# Altium footprint library RealtekSwitches.PcbLib: 3 footprints
Each footprint in its own frame and in the unit in brackets; x right, y up, seen from the top. Pads: shape width x height; smd on the part's side, far side on the other; paste and mask are expansions set on the pad; w line width, h text height; cw(c..) or ccw(c..) is an arc to the next point about the centre after c.
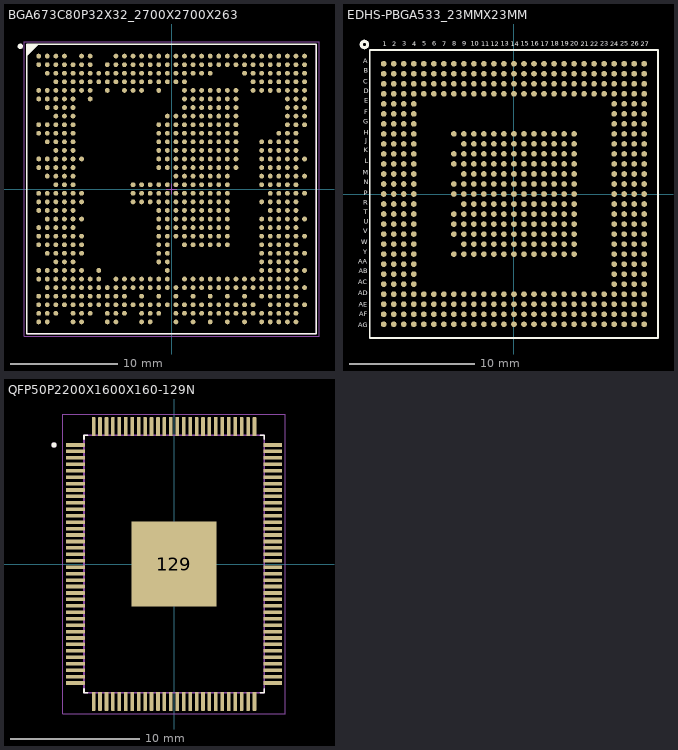
[diagram p0: the footprints below, top view; thin cyan lines are the x and y axes]

## BGA673C80P32X32_2700X2700X263 [mm] "BGA, 673-Leads, Body 27,00x27,00mmx2,63mm, Pitch 0,80mm"
height 2.63
pads (673):
  round 0.45 smd: A1(-12.4,12.4) A2(-11.6,12.4) A3(-10.8,12.4) A4(-10,12.4) A6(-8.4,12.4) A7(-7.6,12.4) A10(-5.2,12.4) A11(-4.4,12.4) A12(-3.6,12.4) A13(-2.8,12.4) A14(-2,12.4) A15(-1.2,12.4) A16(-0.4,12.4) A17(0.4,12.4) A18(1.2,12.4) A19(2,12.4) A20(2.8,12.4) A21(3.6,12.4) A22(4.4,12.4) A23(5.2,12.4) A24(6,12.4) A25(6.8,12.4) A26(7.6,12.4) A27(8.4,12.4) A28(9.2,12.4) A29(10,12.4) A30(10.8,12.4) A31(11.6,12.4) A32(12.4,12.4) AA1(-12.4,-3.6) AA2(-11.6,-3.6) AA3(-10.8,-3.6) AA4(-10,-3.6) AA5(-9.2,-3.6) AA15(-1.2,-3.6) AA16(-0.4,-3.6) AA17(0.4,-3.6) AA18(1.2,-3.6) AA19(2,-3.6) AA20(2.8,-3.6) AA21(3.6,-3.6) AA22(4.4,-3.6) AA23(5.2,-3.6) AA27(8.4,-3.6) AA28(9.2,-3.6) AA29(10,-3.6) AA30(10.8,-3.6) AA31(11.6,-3.6) AB1(-12.4,-4.4) AB2(-11.6,-4.4) AB3(-10.8,-4.4) AB4(-10,-4.4) AB5(-9.2,-4.4) AB6(-8.4,-4.4) AB15(-1.2,-4.4) AB16(-0.4,-4.4) AB17(0.4,-4.4) AB18(1.2,-4.4) AB19(2,-4.4) AB20(2.8,-4.4) AB21(3.6,-4.4) AB22(4.4,-4.4) AB23(5.2,-4.4) AB27(8.4,-4.4) AB28(9.2,-4.4) AB29(10,-4.4) AB30(10.8,-4.4) AB31(11.6,-4.4) AB32(12.4,-4.4) AC1(-12.4,-5.2) AC2(-11.6,-5.2) AC3(-10.8,-5.2) AC4(-10,-5.2) AC5(-9.2,-5.2) AC6(-8.4,-5.2) AC15(-1.2,-5.2) AC16(-0.4,-5.2) AC18(1.2,-5.2) AC19(2,-5.2) AC20(2.8,-5.2) AC21(3.6,-5.2) AC22(4.4,-5.2) AC23(5.2,-5.2) AC27(8.4,-5.2) AC28(9.2,-5.2) AC29(10,-5.2) AC30(10.8,-5.2) AC31(11.6,-5.2) AD2(-11.6,-6) AD3(-10.8,-6) AD4(-10,-6) AD5(-9.2,-6) AD6(-8.4,-6) AD15(-1.2,-6) AD16(-0.4,-6) AD27(8.4,-6) AD28(9.2,-6) AD29(10,-6) AD30(10.8,-6) AD31(11.6,-6) AD32(12.4,-6) AE3(-10.8,-6.8) AE4(-10,-6.8) AE5(-9.2,-6.8) AE15(-1.2,-6.8) AE16(-0.4,-6.8) AE27(8.4,-6.8) AE28(9.2,-6.8) AE29(10,-6.8) AE30(10.8,-6.8) AE31(11.6,-6.8) AF1(-12.4,-7.6) AF2(-11.6,-7.6) AF3(-10.8,-7.6) AF4(-10,-7.6) AF5(-9.2,-7.6) AF6(-8.4,-7.6) AF8(-6.8,-7.6) AF16(-0.4,-7.6) AF27(8.4,-7.6) AF28(9.2,-7.6) AF29(10,-7.6) AF30(10.8,-7.6) AF31(11.6,-7.6) AF32(12.4,-7.6) AG1(-12.4,-8.4) AG2(-11.6,-8.4) AG3(-10.8,-8.4) AG4(-10,-8.4) AG5(-9.2,-8.4) AG6(-8.4,-8.4) AG7(-7.6,-8.4) AG8(-6.8,-8.4) AG10(-5.2,-8.4) AG11(-4.4,-8.4) AG12(-3.6,-8.4) AG13(-2.8,-8.4) AG14(-2,-8.4) AG15(-1.2,-8.4) AG16(-0.4,-8.4) AG18(1.2,-8.4) AG19(2,-8.4) AG20(2.8,-8.4) AG21(3.6,-8.4) AG22(4.4,-8.4) AG23(5.2,-8.4) AG24(6,-8.4) AG25(6.8,-8.4) AG26(7.6,-8.4) AG27(8.4,-8.4) AG28(9.2,-8.4) AG29(10,-8.4) AG30(10.8,-8.4) AG31(11.6,-8.4) AH2(-11.6,-9.2) AH3(-10.8,-9.2) AH4(-10,-9.2) AH5(-9.2,-9.2) AH6(-8.4,-9.2) AH7(-7.6,-9.2) AH8(-6.8,-9.2) AH9(-6,-9.2) AH10(-5.2,-9.2) AH11(-4.4,-9.2) AH12(-3.6,-9.2) AH13(-2.8,-9.2) AH14(-2,-9.2) AH15(-1.2,-9.2) AH16(-0.4,-9.2) AH17(0.4,-9.2) AH18(1.2,-9.2) AH19(2,-9.2) AH20(2.8,-9.2) AH21(3.6,-9.2) AH22(4.4,-9.2) AH23(5.2,-9.2) AH24(6,-9.2) AH25(6.8,-9.2) AH26(7.6,-9.2) AH27(8.4,-9.2) AH28(9.2,-9.2) AH29(10,-9.2) AH30(10.8,-9.2) AH31(11.6,-9.2) AH32(12.4,-9.2) AJ1(-12.4,-10) AJ2(-11.6,-10) AJ3(-10.8,-10) AJ4(-10,-10) AJ5(-9.2,-10) AJ6(-8.4,-10) AJ7(-7.6,-10) AJ8(-6.8,-10) AJ9(-6,-10) AJ10(-5.2,-10) AJ11(-4.4,-10) AJ13(-2.8,-10) AJ15(-1.2,-10) AJ17(0.4,-10) AJ19(2,-10) AJ21(3.6,-10) AJ23(5.2,-10) AJ25(6.8,-10) AJ27(8.4,-10) AJ28(9.2,-10) AJ29(10,-10) AJ30(10.8,-10) AJ31(11.6,-10) AK1(-12.4,-10.8) AK2(-11.6,-10.8) AK3(-10.8,-10.8) AK4(-10,-10.8) AK5(-9.2,-10.8) AK6(-8.4,-10.8) AK7(-7.6,-10.8) AK8(-6.8,-10.8) AK9(-6,-10.8) AK10(-5.2,-10.8) AK11(-4.4,-10.8) AK12(-3.6,-10.8) AK13(-2.8,-10.8) AK14(-2,-10.8) AK15(-1.2,-10.8) AK16(-0.4,-10.8) AK17(0.4,-10.8) AK18(1.2,-10.8) AK19(2,-10.8) AK20(2.8,-10.8) AK21(3.6,-10.8) AK22(4.4,-10.8) AK23(5.2,-10.8) AK24(6,-10.8) AK25(6.8,-10.8) AK26(7.6,-10.8) AK28(9.2,-10.8) AK29(10,-10.8) AK30(10.8,-10.8) AK31(11.6,-10.8) AK32(12.4,-10.8) AL1(-12.4,-11.6) AL2(-11.6,-11.6) AL3(-10.8,-11.6) AL5(-9.2,-11.6) AL6(-8.4,-11.6) AL7(-7.6,-11.6) AL9(-6,-11.6) AL10(-5.2,-11.6) AL11(-4.4,-11.6) AL13(-2.8,-11.6) AL14(-2,-11.6) AL15(-1.2,-11.6) AL17(0.4,-11.6) AL18(1.2,-11.6) AL19(2,-11.6) AL20(2.8,-11.6) AL21(3.6,-11.6) AL22(4.4,-11.6) AL23(5.2,-11.6) AL24(6,-11.6) AL25(6.8,-11.6) AL26(7.6,-11.6) AL27(8.4,-11.6) AL28(9.2,-11.6) AL29(10,-11.6) AL30(10.8,-11.6) AL31(11.6,-11.6) AM1(-12.4,-12.4) AM2(-11.6,-12.4) AM5(-9.2,-12.4) AM6(-8.4,-12.4) AM9(-6,-12.4) AM10(-5.2,-12.4) AM13(-2.8,-12.4) AM14(-2,-12.4) AM17(0.4,-12.4) AM19(2,-12.4) AM21(3.6,-12.4) AM23(5.2,-12.4) AM25(6.8,-12.4) AM27(8.4,-12.4) AM28(9.2,-12.4) AM29(10,-12.4) AM30(10.8,-12.4) AM31(11.6,-12.4) B1(-12.4,11.6) B2(-11.6,11.6) B3(-10.8,11.6) B4(-10,11.6) B5(-9.2,11.6) B6(-8.4,11.6) B7(-7.6,11.6) B9(-6,11.6) B10(-5.2,11.6) B11(-4.4,11.6) B12(-3.6,11.6) B13(-2.8,11.6) B14(-2,11.6) B15(-1.2,11.6) B16(-0.4,11.6) B17(0.4,11.6) B18(1.2,11.6) B19(2,11.6) B20(2.8,11.6) B21(3.6,11.6) B22(4.4,11.6) B23(5.2,11.6) B24(6,11.6) B25(6.8,11.6) B26(7.6,11.6) B27(8.4,11.6) B28(9.2,11.6) B29(10,11.6) B30(10.8,11.6) B31(11.6,11.6) B32(12.4,11.6) C2(-11.6,10.8) C3(-10.8,10.8) C4(-10,10.8) C5(-9.2,10.8) C6(-8.4,10.8) C7(-7.6,10.8) C8(-6.8,10.8) C9(-6,10.8) C10(-5.2,10.8) C11(-4.4,10.8) C12(-3.6,10.8) C13(-2.8,10.8) C14(-2,10.8) C15(-1.2,10.8) C16(-0.4,10.8) C17(0.4,10.8) C18(1.2,10.8) C19(2,10.8) C20(2.8,10.8) C21(3.6,10.8) C25(6.8,10.8) C26(7.6,10.8) C27(8.4,10.8) C28(9.2,10.8) C29(10,10.8) C30(10.8,10.8) C31(11.6,10.8) C32(12.4,10.8) D3(-10.8,10) D4(-10,10) D5(-9.2,10) D6(-8.4,10) D7(-7.6,10) D8(-6.8,10) D9(-6,10) D10(-5.2,10) D11(-4.4,10) D12(-3.6,10) D13(-2.8,10) D14(-2,10) D15(-1.2,10) D16(-0.4,10) D17(0.4,10) D18(1.2,10) D26(7.6,10) D27(8.4,10) D28(9.2,10) D29(10,10) D30(10.8,10) D31(11.6,10) D32(12.4,10) E1(-12.4,9.2) E2(-11.6,9.2) E3(-10.8,9.2) E4(-10,9.2) E5(-9.2,9.2) E6(-8.4,9.2) E7(-7.6,9.2) E9(-6,9.2) E11(-4.4,9.2) E12(-3.6,9.2) E13(-2.8,9.2) E15(-1.2,9.2) E18(1.2,9.2) E19(2,9.2) E20(2.8,9.2) E21(3.6,9.2) E22(4.4,9.2) E23(5.2,9.2) E24(6,9.2) E26(7.6,9.2) E27(8.4,9.2) E28(9.2,9.2) E29(10,9.2) E30(10.8,9.2) E31(11.6,9.2) E32(12.4,9.2) F1(-12.4,8.4) F2(-11.6,8.4) F3(-10.8,8.4) F4(-10,8.4) F5(-9.2,8.4) F7(-7.6,8.4) F18(1.2,8.4) F19(2,8.4) F20(2.8,8.4) F21(3.6,8.4) F22(4.4,8.4) F23(5.2,8.4) F24(6,8.4) F30(10.8,8.4) F31(11.6,8.4) F32(12.4,8.4) G2(-11.6,7.6) G3(-10.8,7.6) G4(-10,7.6) G5(-9.2,7.6) G18(1.2,7.6) G19(2,7.6) G20(2.8,7.6) G21(3.6,7.6) G22(4.4,7.6) G23(5.2,7.6) G24(6,7.6) G30(10.8,7.6) G31(11.6,7.6) G32(12.4,7.6) H3(-10.8,6.8) H4(-10,6.8) H5(-9.2,6.8) H16(-0.4,6.8) H17(0.4,6.8) H18(1.2,6.8) H19(2,6.8) H20(2.8,6.8) H21(3.6,6.8) H22(4.4,6.8) H23(5.2,6.8) H24(6,6.8) H30(10.8,6.8) H31(11.6,6.8) H32(12.4,6.8) J1(-12.4,6) J2(-11.6,6) J3(-10.8,6) J4(-10,6) J5(-9.2,6) J15(-1.2,6) J16(-0.4,6) J17(0.4,6) J18(1.2,6) J19(2,6) J20(2.8,6) J21(3.6,6) J22(4.4,6) J23(5.2,6) J24(6,6) J30(10.8,6) J31(11.6,6) J32(12.4,6) K1(-12.4,5.2) K2(-11.6,5.2) K3(-10.8,5.2) K4(-10,5.2) K5(-9.2,5.2) K15(-1.2,5.2) K16(-0.4,5.2) K17(0.4,5.2) K18(1.2,5.2) K19(2,5.2) K20(2.8,5.2) K21(3.6,5.2) K22(4.4,5.2) K23(5.2,5.2) K24(6,5.2) K29(10,5.2) K30(10.8,5.2) K31(11.6,5.2) L2(-11.6,4.4) L3(-10.8,4.4) L4(-10,4.4) L5(-9.2,4.4) L15(-1.2,4.4) L16(-0.4,4.4) L17(0.4,4.4) L18(1.2,4.4) L19(2,4.4) L20(2.8,4.4) L21(3.6,4.4) L22(4.4,4.4) L23(5.2,4.4) L24(6,4.4) L27(8.4,4.4) L28(9.2,4.4) L29(10,4.4) L30(10.8,4.4) L31(11.6,4.4) M3(-10.8,3.6) M4(-10,3.6) M5(-9.2,3.6) M15(-1.2,3.6) M16(-0.4,3.6) M17(0.4,3.6) M18(1.2,3.6) M19(2,3.6) M20(2.8,3.6) M21(3.6,3.6) M22(4.4,3.6) M23(5.2,3.6) M24(6,3.6) M27(8.4,3.6) M28(9.2,3.6) M29(10,3.6) M30(10.8,3.6) M31(11.6,3.6) N1(-12.4,2.8) N2(-11.6,2.8) N3(-10.8,2.8) N4(-10,2.8) N5(-9.2,2.8) N6(-8.4,2.8) N15(-1.2,2.8) N16(-0.4,2.8) N17(0.4,2.8) N18(1.2,2.8) N19(2,2.8) N20(2.8,2.8) N21(3.6,2.8) N22(4.4,2.8) N23(5.2,2.8) N24(6,2.8) N27(8.4,2.8) N28(9.2,2.8) N29(10,2.8) N30(10.8,2.8) N31(11.6,2.8) N32(12.4,2.8) P1(-12.4,2) P2(-11.6,2) P3(-10.8,2) P4(-10,2) P5(-9.2,2) P15(-1.2,2) P16(-0.4,2) P17(0.4,2) P18(1.2,2) P19(2,2) P20(2.8,2) P21(3.6,2) P22(4.4,2) P23(5.2,2) P24(6,2) P27(8.4,2) P28(9.2,2) P29(10,2) P30(10.8,2) P31(11.6,2) R2(-11.6,1.2) R3(-10.8,1.2) R4(-10,1.2) R5(-9.2,1.2) R17(0.4,1.2) R18(1.2,1.2) R19(2,1.2) R20(2.8,1.2) R21(3.6,1.2) R22(4.4,1.2) R23(5.2,1.2) R27(8.4,1.2) R28(9.2,1.2) R29(10,1.2) R30(10.8,1.2) R31(11.6,1.2) R32(12.4,1.2) T3(-10.8,0.4) T4(-10,0.4) T5(-9.2,0.4) T12(-3.6,0.4) T13(-2.8,0.4) T14(-2,0.4) T15(-1.2,0.4) T16(-0.4,0.4) T17(0.4,0.4) T18(1.2,0.4) T19(2,0.4) T20(2.8,0.4) T21(3.6,0.4) T22(4.4,0.4) T23(5.2,0.4) T27(8.4,0.4) T28(9.2,0.4) T29(10,0.4) T30(10.8,0.4) T31(11.6,0.4) U1(-12.4,-0.4) U2(-11.6,-0.4) U3(-10.8,-0.4) U4(-10,-0.4) U5(-9.2,-0.4) U6(-8.4,-0.4) U12(-3.6,-0.4) U13(-2.8,-0.4) U14(-2,-0.4) U15(-1.2,-0.4) U16(-0.4,-0.4) U17(0.4,-0.4) U18(1.2,-0.4) U19(2,-0.4) U20(2.8,-0.4) U21(3.6,-0.4) U22(4.4,-0.4) U23(5.2,-0.4) U28(9.2,-0.4) U29(10,-0.4) U30(10.8,-0.4) U31(11.6,-0.4) U32(12.4,-0.4) V1(-12.4,-1.2) V2(-11.6,-1.2) V3(-10.8,-1.2) V4(-10,-1.2) V5(-9.2,-1.2) V6(-8.4,-1.2) V12(-3.6,-1.2) V13(-2.8,-1.2) V14(-2,-1.2) V15(-1.2,-1.2) V16(-0.4,-1.2) V17(0.4,-1.2) V18(1.2,-1.2) V19(2,-1.2) V20(2.8,-1.2) V21(3.6,-1.2) V22(4.4,-1.2) V23(5.2,-1.2) V27(8.4,-1.2) V28(9.2,-1.2) V29(10,-1.2) V30(10.8,-1.2) V31(11.6,-1.2) W1(-12.4,-2) W2(-11.6,-2) W3(-10.8,-2) W4(-10,-2) W5(-9.2,-2) W15(-1.2,-2) W16(-0.4,-2) W17(0.4,-2) W18(1.2,-2) W19(2,-2) W20(2.8,-2) W21(3.6,-2) W22(4.4,-2) W23(5.2,-2) W28(9.2,-2) W29(10,-2) W30(10.8,-2) W31(11.6,-2) Y2(-11.6,-2.8) Y3(-10.8,-2.8) Y4(-10,-2.8) Y5(-9.2,-2.8) Y6(-8.4,-2.8) Y15(-1.2,-2.8) Y16(-0.4,-2.8) Y17(0.4,-2.8) Y18(1.2,-2.8) Y19(2,-2.8) Y20(2.8,-2.8) Y21(3.6,-2.8) Y22(4.4,-2.8) Y23(5.2,-2.8) Y27(8.4,-2.8) Y28(9.2,-2.8) Y29(10,-2.8) Y30(10.8,-2.8) Y31(11.6,-2.8) Y32(12.4,-2.8)
Top Overlay:
  circle w0.25: c-14.113,13.314 r0.125
  region: -12.5,13.5 -13.5,12.5 -13.5,13.5
  lines w0.127: -13.5,12.5 -12.5,13.5 ; -13.5,-13.5 -13.5,13.5 13.5,13.5 13.5,-13.5 -13.5,-13.5
Mechanical 13:
  lines w0.1: -13.5,-13.5 -13.5,13.5 13.5,13.5 13.5,-13.5 -13.5,-13.5
Mechanical 15:
  lines w0.05: -13.75,-13.75 -13.75,13.75 13.75,13.75 13.75,-13.75 -13.75,-13.75
  lines w0.1: -0.5,0 0.5,0 ; 0,-0.5 0,0.5
3D body "RTL9311.step": height 2.33, standoff -0.02, extent -13.5,-13.5 13.5,13.5

## EDHS-PBGA533_23MMX23MM [mm] "/ 070726 / J.Jaramillo"
pads (533):
  round 0.45 smd mask+0.102: A1(-10.4,10.4) A2(-9.6,10.4) A3(-8.8,10.4) A4(-8,10.4) A5(-7.2,10.4) A6(-6.4,10.4) A7(-5.6,10.4) A8(-4.8,10.4) A9(-4,10.4) A10(-3.2,10.4) A11(-2.4,10.4) A12(-1.6,10.4) A13(-0.8,10.4) A14(0,10.4) A15(0.8,10.4) A16(1.6,10.4) A17(2.4,10.4) A18(3.2,10.4) A19(4,10.4) A20(4.8,10.4) A21(5.6,10.4) A22(6.4,10.4) A23(7.2,10.4) A24(8,10.4) A25(8.8,10.4) A26(9.6,10.4) A27(10.4,10.4) AA1(-10.4,-5.6) AA2(-9.6,-5.6) AA3(-8.8,-5.6) AA4(-8,-5.6) AA24(8,-5.6) AA25(8.8,-5.6) AA26(9.6,-5.6) AA27(10.4,-5.6) AB1(-10.4,-6.4) AB2(-9.6,-6.4) AB3(-8.8,-6.4) AB4(-8,-6.4) AB24(8,-6.4) AB25(8.8,-6.4) AB26(9.6,-6.4) AB27(10.4,-6.4) AC1(-10.4,-7.2) AC2(-9.6,-7.2) AC3(-8.8,-7.2) AC4(-8,-7.2) AC24(8,-7.2) AC25(8.8,-7.2) AC26(9.6,-7.2) AC27(10.4,-7.2) AD1(-10.4,-8) AD2(-9.6,-8) AD3(-8.8,-8) AD4(-8,-8) AD5(-7.2,-8) AD6(-6.4,-8) AD7(-5.6,-8) AD8(-4.8,-8) AD9(-4,-8) AD10(-3.2,-8) AD11(-2.4,-8) AD12(-1.6,-8) AD13(-0.8,-8) AD14(0,-8) AD15(0.8,-8) AD16(1.6,-8) AD17(2.4,-8) AD18(3.2,-8) AD19(4,-8) AD20(4.8,-8) AD21(5.6,-8) AD22(6.4,-8) AD23(7.2,-8) AD24(8,-8) AD25(8.8,-8) AD26(9.6,-8) AD27(10.4,-8) AE1(-10.4,-8.8) AE2(-9.6,-8.8) AE3(-8.8,-8.8) AE4(-8,-8.8) AE5(-7.2,-8.8) AE6(-6.4,-8.8) AE7(-5.6,-8.8) AE8(-4.8,-8.8) AE9(-4,-8.8) AE10(-3.2,-8.8) AE11(-2.4,-8.8) AE12(-1.6,-8.8) AE13(-0.8,-8.8) AE14(0,-8.8) AE15(0.8,-8.8) AE16(1.6,-8.8) AE17(2.4,-8.8) AE18(3.2,-8.8) AE19(4,-8.8) AE20(4.8,-8.8) AE21(5.6,-8.8) AE22(6.4,-8.8) AE23(7.2,-8.8) AE24(8,-8.8) AE25(8.8,-8.8) AE26(9.6,-8.8) AE27(10.4,-8.8) AF1(-10.4,-9.6) AF2(-9.6,-9.6) AF3(-8.8,-9.6) AF4(-8,-9.6) AF5(-7.2,-9.6) AF6(-6.4,-9.6) AF7(-5.6,-9.6) AF8(-4.8,-9.6) AF9(-4,-9.6) AF10(-3.2,-9.6) AF11(-2.4,-9.6) AF12(-1.6,-9.6) AF13(-0.8,-9.6) AF14(0,-9.6) AF15(0.8,-9.6) AF16(1.6,-9.6) AF17(2.4,-9.6) AF18(3.2,-9.6) AF19(4,-9.6) AF20(4.8,-9.6) AF21(5.6,-9.6) AF22(6.4,-9.6) AF23(7.2,-9.6) AF24(8,-9.6) AF25(8.8,-9.6) AF26(9.6,-9.6) AF27(10.4,-9.6) AG1(-10.4,-10.4) AG2(-9.6,-10.4) AG3(-8.8,-10.4) AG4(-8,-10.4) AG5(-7.2,-10.4) AG6(-6.4,-10.4) AG7(-5.6,-10.4) AG8(-4.8,-10.4) AG9(-4,-10.4) AG10(-3.2,-10.4) AG11(-2.4,-10.4) AG12(-1.6,-10.4) AG13(-0.8,-10.4) AG14(0,-10.4) AG15(0.8,-10.4) AG16(1.6,-10.4) AG17(2.4,-10.4) AG18(3.2,-10.4) AG19(4,-10.4) AG20(4.8,-10.4) AG21(5.6,-10.4) AG22(6.4,-10.4) AG23(7.2,-10.4) AG24(8,-10.4) AG25(8.8,-10.4) AG26(9.6,-10.4) AG27(10.4,-10.4) B1(-10.4,9.6) B2(-9.6,9.6) B3(-8.8,9.6) B4(-8,9.6) B5(-7.2,9.6) B6(-6.4,9.6) B7(-5.6,9.6) B8(-4.8,9.6) B9(-4,9.6) B10(-3.2,9.6) B11(-2.4,9.6) B12(-1.6,9.6) B13(-0.8,9.6) B14(0,9.6) B15(0.8,9.6) B16(1.6,9.6) B17(2.4,9.6) B18(3.2,9.6) B19(4,9.6) B20(4.8,9.6) B21(5.6,9.6) B22(6.4,9.6) B23(7.2,9.6) B24(8,9.6) B25(8.8,9.6) B26(9.6,9.6) B27(10.4,9.6) C1(-10.4,8.8) C2(-9.6,8.8) C3(-8.8,8.8) C4(-8,8.8) C5(-7.2,8.8) C6(-6.4,8.8) C7(-5.6,8.8) C8(-4.8,8.8) C9(-4,8.8) C10(-3.2,8.8) C11(-2.4,8.8) C12(-1.6,8.8) C13(-0.8,8.8) C14(0,8.8) C15(0.8,8.8) C16(1.6,8.8) C17(2.4,8.8) C18(3.2,8.8) C19(4,8.8) C20(4.8,8.8) C21(5.6,8.8) C22(6.4,8.8) C23(7.2,8.8) C24(8,8.8) C25(8.8,8.8) C26(9.6,8.8) C27(10.4,8.8) D1(-10.4,8) D2(-9.6,8) D3(-8.8,8) D4(-8,8) D5(-7.2,8) D6(-6.4,8) D7(-5.6,8) D8(-4.8,8) D9(-4,8) D10(-3.2,8) D11(-2.4,8) D12(-1.6,8) D13(-0.8,8) D14(0,8) D15(0.8,8) D16(1.6,8) D17(2.4,8) D18(3.2,8) D19(4,8) D20(4.8,8) D21(5.6,8) D22(6.4,8) D23(7.2,8) D24(8,8) D25(8.8,8) D26(9.6,8) D27(10.4,8) E1(-10.4,7.2) E2(-9.6,7.2) E3(-8.8,7.2) E4(-8,7.2) E24(8,7.2) E25(8.8,7.2) E26(9.6,7.2) E27(10.4,7.2) F1(-10.4,6.4) F2(-9.6,6.4) F3(-8.8,6.4) F4(-8,6.4) F24(8,6.4) F25(8.8,6.4) F26(9.6,6.4) F27(10.4,6.4) G1(-10.4,5.6) G2(-9.6,5.6) G3(-8.8,5.6) G4(-8,5.6) G24(8,5.6) G25(8.8,5.6) G26(9.6,5.6) G27(10.4,5.6) H1(-10.4,4.8) H2(-9.6,4.8) H3(-8.8,4.8) H4(-8,4.8) H8(-4.8,4.8) H9(-4,4.8) H10(-3.2,4.8) H11(-2.4,4.8) H12(-1.6,4.8) H13(-0.8,4.8) H14(0,4.8) H15(0.8,4.8) H16(1.6,4.8) H17(2.4,4.8) H18(3.2,4.8) H19(4,4.8) H20(4.8,4.8) H24(8,4.8) H25(8.8,4.8) H26(9.6,4.8) H27(10.4,4.8) J1(-10.4,4) J2(-9.6,4) J3(-8.8,4) J4(-8,4) J9(-4,4) J10(-3.2,4) J11(-2.4,4) J12(-1.6,4) J13(-0.8,4) J14(0,4) J15(0.8,4) J16(1.6,4) J17(2.4,4) J18(3.2,4) J19(4,4) J20(4.8,4) J24(8,4) J25(8.8,4) J26(9.6,4) J27(10.4,4) K1(-10.4,3.2) K2(-9.6,3.2) K3(-8.8,3.2) K4(-8,3.2) K8(-4.8,3.2) K9(-4,3.2) K10(-3.2,3.2) K11(-2.4,3.2) K12(-1.6,3.2) K13(-0.8,3.2) K14(0,3.2) K15(0.8,3.2) K16(1.6,3.2) K17(2.4,3.2) K18(3.2,3.2) K19(4,3.2) K20(4.8,3.2) K24(8,3.2) K25(8.8,3.2) K26(9.6,3.2) K27(10.4,3.2) L1(-10.4,2.4) L2(-9.6,2.4) L3(-8.8,2.4) L4(-8,2.4) L8(-4.8,2.4) L9(-4,2.4) L10(-3.2,2.4) L11(-2.4,2.4) L12(-1.6,2.4) L13(-0.8,2.4) L14(0,2.4) L15(0.8,2.4) L16(1.6,2.4) L17(2.4,2.4) L18(3.2,2.4) L19(4,2.4) L20(4.8,2.4) L24(8,2.4) L25(8.8,2.4) L26(9.6,2.4) L27(10.4,2.4) M1(-10.4,1.6) M2(-9.6,1.6) M3(-8.8,1.6) M4(-8,1.6) M9(-4,1.6) M10(-3.2,1.6) M11(-2.4,1.6) M12(-1.6,1.6) M13(-0.8,1.6) M14(0,1.6) M15(0.8,1.6) M16(1.6,1.6) M17(2.4,1.6) M18(3.2,1.6) M19(4,1.6) M20(4.8,1.6) M24(8,1.6) M25(8.8,1.6) M26(9.6,1.6) M27(10.4,1.6) N1(-10.4,0.8) N2(-9.6,0.8) N3(-8.8,0.8) N4(-8,0.8) N8(-4.8,0.8) N9(-4,0.8) N10(-3.2,0.8) N11(-2.4,0.8) N12(-1.6,0.8) N13(-0.8,0.8) N14(0,0.8) N15(0.8,0.8) N16(1.6,0.8) N17(2.4,0.8) N18(3.2,0.8) N19(4,0.8) N20(4.8,0.8) N24(8,0.8) N25(8.8,0.8) N26(9.6,0.8) N27(10.4,0.8) P1(-10.4,0) P2(-9.6,0) P3(-8.8,0) P4(-8,0) P8(-4.8,0) P9(-4,0) P10(-3.2,0) P11(-2.4,0) P12(-1.6,0) P13(-0.8,0) P14(0,0) P15(0.8,0) P16(1.6,0) P17(2.4,0) P18(3.2,0) P19(4,0) P20(4.8,0) P24(8,0) P25(8.8,0) P26(9.6,0) P27(10.4,0) R1(-10.4,-0.8) R2(-9.6,-0.8) R3(-8.8,-0.8) R4(-8,-0.8) R9(-4,-0.8) R10(-3.2,-0.8) R11(-2.4,-0.8) R12(-1.6,-0.8) R13(-0.8,-0.8) R14(0,-0.8) R15(0.8,-0.8) R16(1.6,-0.8) R17(2.4,-0.8) R18(3.2,-0.8) R19(4,-0.8) R20(4.8,-0.8) R24(8,-0.8) R25(8.8,-0.8) R26(9.6,-0.8) R27(10.4,-0.8) T1(-10.4,-1.6) T2(-9.6,-1.6) T3(-8.8,-1.6) T4(-8,-1.6) T8(-4.8,-1.6) T9(-4,-1.6) T10(-3.2,-1.6) T11(-2.4,-1.6) T12(-1.6,-1.6) T13(-0.8,-1.6) T14(0,-1.6) T15(0.8,-1.6) T16(1.6,-1.6) T17(2.4,-1.6) T18(3.2,-1.6) T19(4,-1.6) T20(4.8,-1.6) T24(8,-1.6) T25(8.8,-1.6) T26(9.6,-1.6) T27(10.4,-1.6) U1(-10.4,-2.4) U2(-9.6,-2.4) U3(-8.8,-2.4) U4(-8,-2.4) U8(-4.8,-2.4) U9(-4,-2.4) U10(-3.2,-2.4) U11(-2.4,-2.4) U12(-1.6,-2.4) U13(-0.8,-2.4) U14(0,-2.4) U15(0.8,-2.4) U16(1.6,-2.4) U17(2.4,-2.4) U18(3.2,-2.4) U19(4,-2.4) U20(4.8,-2.4) U24(8,-2.4) U25(8.8,-2.4) U26(9.6,-2.4) U27(10.4,-2.4) V1(-10.4,-3.2) V2(-9.6,-3.2) V3(-8.8,-3.2) V4(-8,-3.2) V8(-4.8,-3.2) V9(-4,-3.2) V10(-3.2,-3.2) V11(-2.4,-3.2) V12(-1.6,-3.2) V13(-0.8,-3.2) V14(0,-3.2) V15(0.8,-3.2) V16(1.6,-3.2) V17(2.4,-3.2) V18(3.2,-3.2) V19(4,-3.2) V20(4.8,-3.2) V24(8,-3.2) V25(8.8,-3.2) V26(9.6,-3.2) V27(10.4,-3.2) W1(-10.4,-4) W2(-9.6,-4) W3(-8.8,-4) W4(-8,-4) W9(-4,-4) W10(-3.2,-4) W11(-2.4,-4) W12(-1.6,-4) W13(-0.8,-4) W14(0,-4) W15(0.8,-4) W16(1.6,-4) W17(2.4,-4) W18(3.2,-4) W19(4,-4) W20(4.8,-4) W24(8,-4) W25(8.8,-4) W26(9.6,-4) W27(10.4,-4) Y1(-10.4,-4.8) Y2(-9.6,-4.8) Y3(-8.8,-4.8) Y4(-8,-4.8) Y8(-4.8,-4.8) Y9(-4,-4.8) Y10(-3.2,-4.8) Y11(-2.4,-4.8) Y12(-1.6,-4.8) Y13(-0.8,-4.8) Y14(0,-4.8) Y15(0.8,-4.8) Y16(1.6,-4.8) Y17(2.4,-4.8) Y18(3.2,-4.8) Y19(4,-4.8) Y20(4.8,-4.8) Y24(8,-4.8) Y25(8.8,-4.8) Y26(9.6,-4.8) Y27(10.4,-4.8)
Top Overlay:
  circle w0.254: c-11.938,11.938 r0.254
  lines w0.127: -11.5,-11.5 11.5,-11.5 ; -11.5,-11.5 -11.5,-10.4 -11.5,11.5 11.5,11.5 11.5,-11.5 ; -11.5,-11.5 11.5,-11.5
  text "26" at 9.305,11.664 h0.64
  text "25" at 8.504,11.664 h0.64
  text "23" at 6.905,11.664 h0.64
  text "20" at 4.506,11.664 h0.64
  text "19" at 3.728,11.664 h0.64
  text "18" at 2.928,11.664 h0.64
  text "16" at 1.328,11.664 h0.64
  text "15" at 0.527,11.664 h0.64
  text "27" at 10.105,11.657 h0.64
  text "24" at 7.706,11.657 h0.64
  text "22" at 6.107,11.657 h0.64
  text "21" at 5.344,11.657 h0.64
  text "17" at 2.128,11.657 h0.64
  text "14" at -0.271,11.657 h0.64
  text "11" at -2.632,11.657 h0.64
  text "10" at -3.471,11.664 h0.64
  text "9" at -4.133,11.664 h0.64
  text "8" at -4.934,11.664 h0.64
  text "7" at -5.731,11.657 h0.64
  text "6" at -6.534,11.664 h0.64
  text "5" at -7.334,11.664 h0.64
  text "4" at -8.141,11.657 h0.64
  text "3" at -8.933,11.664 h0.64
  text "2" at -9.735,11.657 h0.64
  text "1" at -10.475,11.657 h0.64
  text "13" at -1.072,11.664 h0.64
  text "12" at -1.869,11.657 h0.64
  text "A" at -12.048,10.287 h0.64
  text "B" at -11.975,9.525 h0.64
  text "C" at -12.029,8.643 h0.64
  text "D" at -12.005,7.874 h0.64
  text "E" at -11.972,7.112 h0.64
  text "F" at -11.943,6.223 h0.64
  text "G" at -12.044,5.468 h0.64
  text "H" at -11.987,4.572 h0.64
  text "J" at -11.893,3.921 h0.64
  text "K" at -12.005,3.175 h0.64
  text "L" at -11.922,2.286 h0.64
  text "M" at -12.057,1.397 h0.64
  text "N" at -11.989,0.635 h0.64
  text "P" at -11.978,-0.254 h0.64
  text "R" at -12.026,-1.016 h0.64
  text "T" at -11.99,-1.778 h0.64
  text "U" at -11.988,-2.533 h0.64
  text "V" at -12.04,-3.302 h0.64
  text "W" at -12.191,-4.191 h0.64
  text "Y" at -12.041,-4.953 h0.64
  text "AA" at -12.426,-5.715 h0.64
  text "AB" at -12.396,-6.477 h0.64
  text "AC" at -12.436,-7.359 h0.64
  text "AD" at -12.428,-8.255 h0.64
  text "AE" at -12.396,-9.144 h0.64
  text "AF" at -12.369,-9.906 h0.64
  text "AG" at -12.454,-10.788 h0.64
Top Solder:
  circle w0.254: c-11.938,11.938 r0.254
3D body "EDHS-PBGA533.step": height 2.06, standoff -0.04, extent -11.5,-11.5 11.5,11.5

## QFP50P2200X1600X160-129N [mm] "/ 090726 / J.Jaramillo"
pads (129):
  rrect18% 1.47x0.28 smd: 1(-7.67,9.25) 2(-7.67,8.75) 3(-7.67,8.25) 4(-7.67,7.75) 5(-7.67,7.25) 6(-7.67,6.75) 7(-7.67,6.25) 8(-7.67,5.75) 9(-7.67,5.25) 10(-7.67,4.75) 11(-7.67,4.25) 12(-7.67,3.75) 13(-7.67,3.25) 14(-7.67,2.75) 15(-7.67,2.25) 16(-7.67,1.75) 17(-7.67,1.25) 18(-7.67,0.75) 19(-7.67,0.25) 20(-7.67,-0.25) 21(-7.67,-0.75) 22(-7.67,-1.25) 23(-7.67,-1.75) 24(-7.67,-2.25) 25(-7.67,-2.75) 26(-7.67,-3.25) 27(-7.67,-3.75) 28(-7.67,-4.25) 29(-7.67,-4.75) 30(-7.67,-5.25) 31(-7.67,-5.75) 32(-7.67,-6.25) 33(-7.67,-6.75) 34(-7.67,-7.25) 35(-7.67,-7.75) 36(-7.67,-8.25) 37(-7.67,-8.75) 38(-7.67,-9.25) 65(7.67,-9.25) 66(7.67,-8.75) 67(7.67,-8.25) 68(7.67,-7.75) 69(7.67,-7.25) 70(7.67,-6.75) 71(7.67,-6.25) 72(7.67,-5.75) 73(7.67,-5.25) 74(7.67,-4.75) 75(7.67,-4.25) 76(7.67,-3.75) 77(7.67,-3.25) 78(7.67,-2.75) 79(7.67,-2.25) 80(7.67,-1.75) 81(7.67,-1.25) 82(7.67,-0.75) 83(7.67,-0.25) 84(7.67,0.25) 85(7.67,0.75) 86(7.67,1.25) 87(7.67,1.75) 88(7.67,2.25) 89(7.67,2.75) 90(7.67,3.25) 91(7.67,3.75) 92(7.67,4.25) 93(7.67,4.75) 94(7.67,5.25) 95(7.67,5.75) 96(7.67,6.25) 97(7.67,6.75) 98(7.67,7.25) 99(7.67,7.75) 100(7.67,8.25) 101(7.67,8.75) 102(7.67,9.25)
  rrect18% 0.28x1.47 smd: 39(-6.25,-10.67) 40(-5.75,-10.67) 41(-5.25,-10.67) 42(-4.75,-10.67) 43(-4.25,-10.67) 44(-3.75,-10.67) 45(-3.25,-10.67) 46(-2.75,-10.67) 47(-2.25,-10.67) 48(-1.75,-10.67) 49(-1.25,-10.67) 50(-0.75,-10.67) 51(-0.25,-10.67) 52(0.25,-10.67) 53(0.75,-10.67) 54(1.25,-10.67) 55(1.75,-10.67) 56(2.25,-10.67) 57(2.75,-10.67) 58(3.25,-10.67) 59(3.75,-10.67) 60(4.25,-10.67) 61(4.75,-10.67) 62(5.25,-10.67) 63(5.75,-10.67) 64(6.25,-10.67) 103(6.25,10.67) 104(5.75,10.67) 105(5.25,10.67) 106(4.75,10.67) 107(4.25,10.67) 108(3.75,10.67) 109(3.25,10.67) 110(2.75,10.67) 111(2.25,10.67) 112(1.75,10.67) 113(1.25,10.67) 114(0.75,10.67) 115(0.25,10.67) 116(-0.25,10.67) 117(-0.75,10.67) 118(-1.25,10.67) 119(-1.75,10.67) 120(-2.25,10.67) 121(-2.75,10.67) 122(-3.25,10.67) 123(-3.75,10.67) 124(-4.25,10.67) 125(-4.75,10.67) 126(-5.25,10.67) 127(-5.75,10.67) 128(-6.25,10.67)
  rect 6.6x6.6 smd paste-2.6: 129(0,0)
Top Overlay:
  circle w0.2: c-9.34,9.25 r0.1
  lines w0.127: -7,-9.71 -7,-10 -6.71,-10 ; -7,9.71 -7,10 -6.71,10 ; 6.71,-10 7,-10 7,-9.71 ; 6.71,10 7,10 7,9.71
Top Paste:
  region: 2.9,-2.9 1.5,-2.9 1.5,-1.5 2.9,-1.5
  region: 0.7,-2.9 -0.7,-2.9 -0.7,-1.5 0.7,-1.5
  region: -1.5,-2.9 -2.9,-2.9 -2.9,-1.5 -1.5,-1.5
  region: 2.9,-0.7 1.5,-0.7 1.5,0.7 2.9,0.7
  region: -1.5,-0.7 -2.9,-0.7 -2.9,0.7 -1.5,0.7
  region: 2.9,1.5 1.5,1.5 1.5,2.9 2.9,2.9
  region: 0.7,1.5 -0.7,1.5 -0.7,2.9 0.7,2.9
  region: -1.5,1.5 -2.9,1.5 -2.9,2.9 -1.5,2.9
Mechanical 13:
  circle w0.2: c-9.34,9.25 r0.1
  lines w0.127: -7,-10 -7,10 7,10 7,-10 -7,-10
Mechanical 15:
  lines w0.05: -8.655,-11.655 -8.655,11.655 8.655,11.655 8.655,-11.655 -8.655,-11.655
3D body "step_temp.STEP": height 1.6, standoff 0, extent -8,-11 8,11